# Altium integrated library OSX10201-GGR1 (1).IntLib: 1 symbol
Pins are listed as number, name and electrical type; pins without a type are passive.

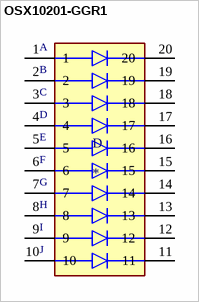
[diagram p0: symbol OSX10201-GGR1]

## OSX10201-GGR1
designator D
Display: LED; bargraph; green _7x_ / red _3x_; 25.5x10.2x7.9mm; MP: OSX10201-GGR1; MF: OptoSupply; Package: None; Price: None; Availability: Unavailable; SnapEDA_Link: https://www.snapeda.com/parts/OSX10201-GGR1/OptoSupply/view-part/473337/?ref=snap; Value: *
footprint DIP760W45P254L2550H790Q20
pins: 1, 2, 3, 4, 5, 6, 7, 8, 9, 10, 11, 12, 13, 14, 15, 16, 17, 18, 19, 20
text: A; B; C; E; F; G; H; I; J